# Altium schematic symbol library MOV-10D560KKTR.SchLib: 1 symbol
Pins are listed as number, name and electrical type; pins without a type are passive.

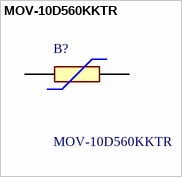
[diagram p0: symbol MOV-10D560KKTR]

## MOV-10D560KKTR
designator B?
VARISTOR, MOV, 110V, DISC 10MM; Manufacturer_Name: Bourns; Geometry.Height: 17.5mm; Mouser Part Number: 652-MOV-10D560KKTR; Mouser Price/Stock: https://www.mouser.co.uk/ProductDetail/Bourns/MOV-10D560KKTR?qs=ST9lo4GX8V2czT1yMnlPDw%3D%3D; Manufacturer_Part_Number: MOV-10D560KKTR; Datasheet Link: https://www.bourns.com/docs/product-datasheets/mov10d.pdf
footprint MOV10D560KKTR
pins: 1, 2